# EAGLE library part TJA1048 (library comma.ai)
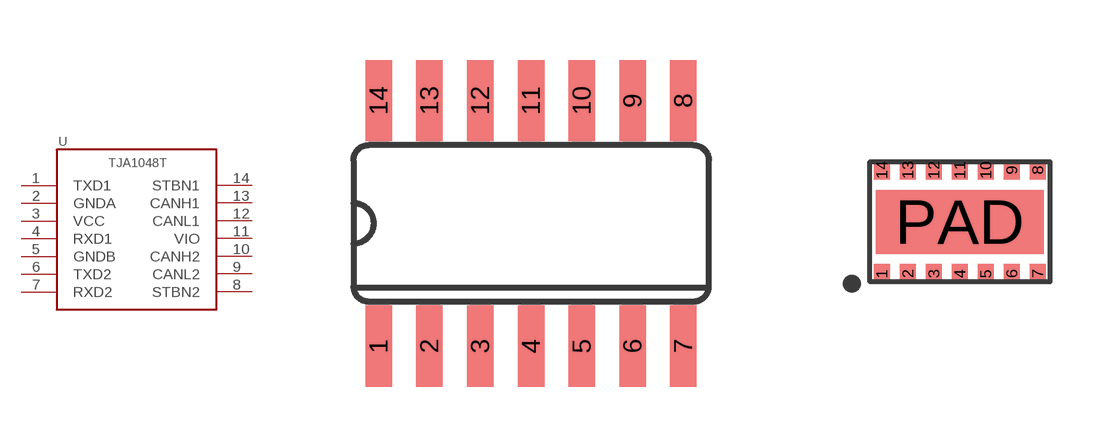
[diagram p2: symbol with the pads of SO14; footprints SO14, HVSON-14]

Designator prefix U

## TJA1048SO14  [SO14]
1  TXD1
2  GNDA
3  VCC  pwr
4  RXD1
5  GNDB
6  TXD2
7  RXD2
8  STBN2
9  CANL2
10  CANH2
11  VIO
12  CANL1
13  CANH1
14  STBN1

## TJA1048  [HVSON-14]
1  TXD1
2  GNDA
3  VCC  pwr
4  RXD1
5  GNDB
6  TXD2
7  RXD2
8  STBN2
9  CANL2
10  CANH2
11  VIO
12  CANL1
13  CANH1
14  STBN1
PAD  GNDA

## Footprint SO14 (pad centres in mm)
Small Outline package 150 mil
smd 0.66 x 2.032: 1 -3.81,-3.073; 2 -2.54,-3.073; 3 -1.27,-3.073; 4 0,-3.073; 5 1.27,-3.073; 6 2.54,-3.073; 7 3.81,-3.073; 8 3.81,3.073; 9 2.54,3.073; 10 1.27,3.073; 11 0,3.073; 12 -1.27,3.073; 13 -2.54,3.073; 14 -3.81,3.073

## Footprint HVSON-14 (pad centres in mm)
smd 0.4 x 0.5: 1 -1.95,-1.3; 2 -1.3,-1.3; 3 -0.65,-1.3; 4 0,-1.3; 5 0.65,-1.3; 6 1.3,-1.3; 7 1.95,-1.3; 8 1.95,1.3; 9 1.3,1.3; 10 0.65,1.3; 11 0,1.3; 12 -0.65,1.3; 13 -1.3,1.3; 14 -1.95,1.3
smd 4.2 x 1.6: PAD 0,0